# Altium footprint library PCB1.PcbLib: 17 footprints (part 1 of 2)
Each footprint in its own frame and in the unit in brackets; x right, y up, seen from the top. Pads: shape width x height; smd on the part's side, far side on the other; paste and mask are expansions set on the pad; w line width, h text height; cw(c..) or ccw(c..) is an arc to the next point about the centre after c.
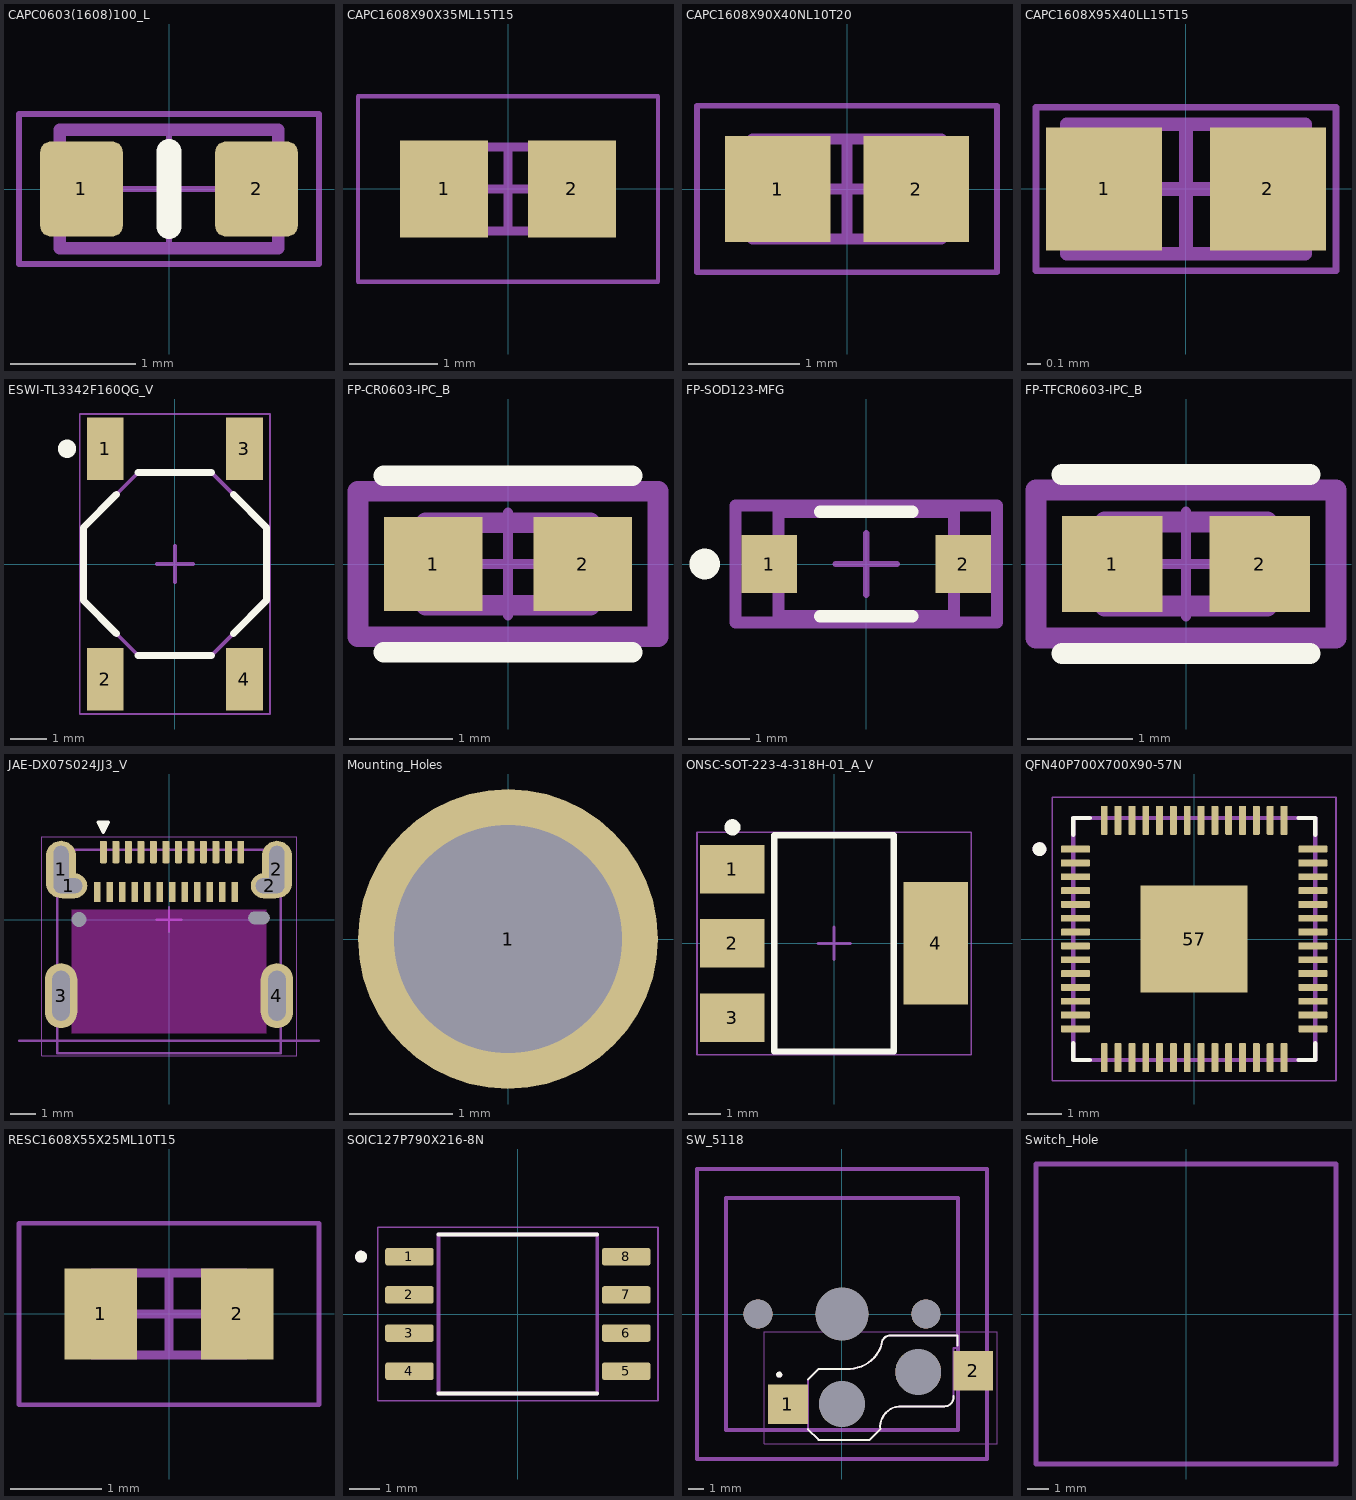
[diagram p0: the footprints below, top view; thin cyan lines are the x and y axes]

## CAPC0603(1608)100_L [mm] "Chip Capacitor, Body 1.6x0.8mm, Height 1.0mm, IPC High Density"
height 1
pads (2):
  rrect25% 0.66x0.76 smd: 1(-0.7,0) 2(0.7,0)
Top Overlay:
  lines w0.2: 0,-0.3 0,0.3
Top Assembly:
  lines w0.1: -0.875,-0.475 -0.875,0.475 0.875,0.475 0.875,-0.475 -0.875,-0.475
Top Courtyard:
  lines w0.05: -0.475,0 0.475,0 ; 0,-0.475 0,0.475 ; -1.2,-0.6 1.2,-0.6 1.2,0.6 -1.2,0.6 -1.2,-0.6
Top Designator:
  text ".Designator" at -1.27,-0.127 h0.6
3D body "CAPC1608X95N EIA 0603.STEP": height 0.95, standoff 0, extent -0.8,-0.4 0.8,0.4

## CAPC1608X90X35ML15T15 [mm] "Chip Capacitor, 2-Leads, Body 1.75x0.95mm, IPC Low Density"
height 0.9
pads (2):
  rect 1x1.1 smd: 1(-0.725,0) 2(0.725,0)
Mechanical 13:
  lines w0.1: -0.875,-0.475 0.875,-0.475 0.875,0.475 -0.875,0.475 -0.875,-0.475
Mechanical 15:
  lines w0.05: -1.7,-1.05 1.7,-1.05 1.7,1.05 -1.7,1.05 -1.7,-1.05
  lines w0.1: -0.475,0 0.475,0 ; 0,-0.475 0,0.475
3D body "CAPC1608X09M.step": height 0.9, standoff 0, extent -0.875,-0.475 0.875,0.475

## CAPC1608X90X40NL10T20 [mm] "Chip Capacitor, 2-Leads, Body 1.70x0.90mm, IPC Medium Density"
height 0.9
pads (2):
  rect 0.95x0.95 smd: 1(-0.625,0) 2(0.625,0)
Mechanical 13:
  lines w0.1: -0.85,-0.45 0.85,-0.45 0.85,0.45 -0.85,0.45 -0.85,-0.45
Mechanical 15:
  lines w0.05: -1.35,-0.75 1.35,-0.75 1.35,0.75 -1.35,0.75 -1.35,-0.75
  lines w0.1: -0.45,0 0.45,0 ; 0,-0.45 0,0.45
3D body "CAPC1608X09N.step": height 0.9, standoff 0, extent -0.85,-0.45 0.85,0.45

## CAPC1608X95X40LL15T15 [mm] "Chip Capacitor, 2-Leads, Body 1.60x0.80mm, IPC High Density"
height 0.95
pads (2):
  rect 0.85x0.9 smd: 1(-0.6,0) 2(0.6,0)
Mechanical 13:
  lines w0.1: -0.875,-0.475 -0.875,0.475 0.875,0.475 0.875,-0.475 -0.875,-0.475
Mechanical 15:
  lines w0.05: -1.1,-0.6 -1.1,0.6 1.1,0.6 1.1,-0.6 -1.1,-0.6
  lines w0.1: -0.475,0 0.475,0 ; 0,-0.475 0,0.475
3D body: height 0.95, standoff 0, extent -0.475,-0.475 0.475,0.475
3D body: height 0.95, standoff 0, extent -0.875,-0.475 -0.475,0.475
3D body: height 0.95, standoff 0, extent 0.475,-0.475 0.875,0.475

## ESWI-TL3342F160QG_V [mm] "SMD, 4-Leads, Body 5x5mm, Pitch 6.3mm"
height 1.5
pads (4):
  rect 1x1.7 smd: 1(-1.9,3.15) 2(-1.9,-3.15) 3(1.9,3.15) 4(1.9,-3.15)
Top Overlay:
  circle w0.25: c-2.95,3.15 r0.125
  lines w0.2: -1.6,-1.9 -2.5,-1 -2.5,1 -1.6,1.9 ; -1,-2.5 1,-2.5 ; -1,2.5 1,2.5 ; 1.6,-1.9 2.5,-1 2.5,1 1.6,1.9
Mechanical 13:
  lines w0.1: -2.5,-1 -1,-2.5 1,-2.5 2.5,-1 2.5,1 1,2.5 -1,2.5 -2.5,1 -2.5,-1
Mechanical 15:
  lines w0.05: -2.6,-4.1 2.6,-4.1 2.6,4.1 -2.6,4.1 -2.6,-4.1
  lines w0.1: -0.5,0 0.5,0 ; 0,-0.5 0,0.5
3D body: height 0.8, standoff 0, extent -2.5,-2.5 2.5,2.5
3D body: height 1.5, standoff 1.2, extent -0.999,-0.999 0.999,0.999
3D body: height 1.2, standoff 0.8, extent -1.899,-1.899 1.899,1.899

## FP-CR0603-IPC_B [mm]
pads (2):
  rect 0.958x0.912 smd paste+0 mask+0: 1(-0.727,0) 2(0.727,0)
Top Overlay:
  lines w0.2: -1.206,-0.856 1.206,-0.856 ; -1.206,0.856 1.206,0.856
Top Assembly:
  lines w0.2: -1.456,-0.706 -1.456,0.706 1.456,0.706 1.456,-0.706 -1.456,-0.706
  text ".Designator" at 0,0.188 h1
Top Courtyard:
  lines w0.2: -1.456,-0.706 -1.456,0.706 1.456,0.706 1.456,-0.706 -1.456,-0.706
Top Component Center:
  lines w0.1: -0.5,0 0.5,0 ; 0,-0.5 0,0.5
Top 3D Body:
  lines w0.2: -0.8,-0.4 -0.8,0.4 0.8,0.4 0.8,-0.4 -0.8,-0.4
3D body "Res_Bourns_CR0603-J-000ELF_eec.STEP": height 0.25, standoff 0, extent -1.456,-0.706 1.456,0.706

## FP-SOD123-MFG [mm]
pads (2):
  rect 0.9x0.95 smd paste+0 mask+0: 1(-1.575,0) 2(1.575,0)
Top Overlay:
  circle w0.25: c-2.625,0 r0.125
  lines w0.2: -0.75,-0.85 0.75,-0.85 ; -0.75,0.85 0.75,0.85
Top Assembly:
  lines w0.2: -2.125,-0.95 -2.125,0.95 2.125,0.95 2.125,-0.95 -2.125,-0.95
  text ".Designator" at 0,-0.001 h1
Top Courtyard:
  lines w0.2: -2.125,-0.95 -2.125,0.95 2.125,0.95 2.125,-0.95 -2.125,-0.95
Top Component Center:
  lines w0.1: -0.5,0 0.5,0 ; 0,-0.5 0,0.5
Top 3D Body:
  lines w0.2: -1.425,-0.85 -1.425,0.85 1.425,0.85 1.425,-0.85 -1.425,-0.85
3D body "Diode_Diodes_Inc_1N4148W-13-F_eec.STEP": height 0.25, standoff 0, extent -2.125,-0.95 2.125,0.95

## FP-TFCR0603-IPC_B [mm]
pads (2):
  rect 0.958x0.912 smd paste+0 mask+0: 1(-0.702,0) 2(0.702,0)
Top Overlay:
  lines w0.2: -1.181,-0.856 1.181,-0.856 ; -1.181,0.856 1.181,0.856
Top Assembly:
  lines w0.2: -1.431,-0.706 -1.431,0.706 1.431,0.706 1.431,-0.706 -1.431,-0.706
  text ".Designator" at 0,0.188 h1
Top Courtyard:
  lines w0.2: -1.431,-0.706 -1.431,0.706 1.431,0.706 1.431,-0.706 -1.431,-0.706
Top Component Center:
  lines w0.1: -0.5,0 0.5,0 ; 0,-0.5 0,0.5
Top 3D Body:
  lines w0.2: -0.775,-0.4 -0.775,0.4 0.775,0.4 0.775,-0.4 -0.775,-0.4
3D body "Res_Venkel_TFCR0603-10W-K-5R76FT_eec.STEP": height 0.25, standoff 0, extent -1.431,-0.706 1.431,0.706

## JAE-DX07S024JJ3_V [mm] "THD, 24-Leads, Body 8.17x8.94mm, Pitch 0.5mm"
height 3.29
pads (32):
  oval 1.2x2.3 hole 0.6 slot 1.9 at 90 deg: 1(-4.32,2) 2(4.32,2)
  oval 1.5x1 hole 0.6 slot 1.1 at 0 deg: 1(-4.02,1.35) 2(4.02,1.35)
  oval 1.3x2.6 hole 0.7 slot 2 at 90 deg: 3(-4.32,-3.05) 4(4.32,-3.05)
  rrect25% 0.27x0.9 smd: A1(-2.625,2.7) A2(-2.125,2.7) A3(-1.625,2.7) A4(-1.125,2.7) A5(-0.625,2.7) A6(-0.125,2.7) A7(0.375,2.7) A8(0.875,2.7) A9(1.375,2.7) A10(1.875,2.7) A11(2.375,2.7) A12(2.875,2.7)
  rrect25% 0.27x0.8 smd: B1(2.625,1.1) B2(2.125,1.1) B3(1.625,1.1) B4(1.125,1.1) B5(0.625,1.1) B6(0.125,1.1) B7(-0.375,1.1) B8(-0.875,1.1) B9(-1.375,1.1) B10(-1.875,1.1) B11(-2.375,1.1) B12(-2.875,1.1)
  round 0 hole 0.6 unplated: H1(-3.6,0)
  round 0 hole 0.5 slot 0.85 at 0 deg unplated: H2(3.6,0.065)
Top Layer keep-out:
  region: -3.9,-4.55 3.9,-4.55 3.9,0.4 -3.9,0.4
Top Overlay:
  region: -2.825,3.89 -2.425,3.89 -2.625,3.49
  lines w0.15: -2.825,3.89 -2.425,3.89 -2.625,3.49 -2.825,3.89
Top Assembly:
  lines w0.1: -6,-4.85 6,-4.85 ; -4.47,-5.35 4.47,-5.35 4.47,2.8 -4.47,2.8 -4.47,-5.35
Top Courtyard:
  lines w0.05: -5.1,-5.45 5.1,-5.45 5.1,3.3 -5.1,3.3 -5.1,-5.45
  lines w0.1: -0.5,0 0.5,0 ; 0,-0.5 0,0.5
Top 3D Body:
  text "Board Edge" at -1.1,-5.3 h0.5
Top Designator:
  text ".Designator" at -1.905,1.778 h0.6
3D body "CX90B1-24P_4800497000_3D.stp": height 3.16, standoff -0.6, extent -4.47,-5.35 4.47,2.8

## Mounting_Holes [mm]
pads (1):
  round 2.9 hole 2.2: 1(0,0)

## ONSC-SOT-223-4-318H-01_A_V [mm] "SOT223, 4-Leads, Body 6.7x3.7mm, Pitch 2.3mm"
height 1.8
pads (4):
  rect 2x1.5 smd: 1(-3.15,2.3) 2(-3.15,0) 3(-3.15,-2.3)
  rect 2x3.8 smd: 4(3.15,0)
Top Overlay:
  circle w0.25: c-3.15,3.6 r0.125
  lines w0.2: -1.85,-3.35 1.85,-3.35 1.85,3.35 -1.85,3.35 -1.85,-3.35
Mechanical 13:
  lines w0.1: -1.85,-3.35 1.85,-3.35 1.85,3.35 -1.85,3.35 -1.85,-3.35
Mechanical 15:
  lines w0.05: -4.25,-3.45 4.25,-3.45 4.25,3.45 -4.25,3.45 -4.25,-3.45
  lines w0.1: -0.5,0 0.5,0 ; 0,-0.5 0,0.5
3D body "SOT230P700X180-4L.step": height 1.8, standoff 0, extent -3.65,-3.35 3.65,3.35

## QFN40P700X700X90-57N [mm]
height 0.9
pads (57):
  rrect25% 0.84x0.2 smd mask+0.05: 2(-3.435,2.2) 3(-3.435,1.8) 4(-3.435,1.4) 5(-3.435,1) 6(-3.435,0.6) 7(-3.435,0.2) 8(-3.435,-0.2) 9(-3.435,-0.6) 11(-3.435,-1.4) 12(-3.435,-1.8) 13(-3.435,-2.2) 14(-3.435,-2.6) 29(3.435,-2.6) 30(3.435,-2.2) 31(3.435,-1.8) 32(3.435,-1.4) 34(3.435,-0.6) 35(3.435,-0.2) 36(3.435,0.2) 37(3.435,0.6) 38(3.435,1) 39(3.435,1.4) 40(3.435,1.8) 41(3.435,2.2) IOVDD(-3.435,-1) IOVDD(-3.435,2.6) IOVDD(3.435,-1) IOVDD(3.435,2.6)
  rrect25% 0.2x0.84 smd mask+0.05: 15(-2.6,-3.435) 16(-2.2,-3.435) 17(-1.8,-3.435) 18(-1.4,-3.435) 19(-1,-3.435) 20(-0.6,-3.435) 21(-0.2,-3.435) 24(1,-3.435) 25(1.4,-3.435) 26(1.8,-3.435) 27(2.2,-3.435) 28(2.6,-3.435) 43(2.6,3.435) 44(2.2,3.435) 45(1.8,3.435) 46(1.4,3.435) 47(1,3.435) 48(0.6,3.435) 51(-0.6,3.435) 52(-1,3.435) 53(-1.4,3.435) 54(-1.8,3.435) 55(-2.2,3.435) 56(-2.6,3.435) DVDD(-0.2,3.435) DVDD(0.6,-3.435) IOVDD(0.2,-3.435) IOVDD(0.2,3.435)
  rect 3.1x3.1 smd paste-0.57 mask+0.05: 57(0,0)
Top Overlay:
  circle w0.2: c-4.475,2.6 r0.1
  lines w0.127: -3.5,-3.02 -3.5,-3.5 -3.02,-3.5 ; -3.5,3.02 -3.5,3.5 -3.02,3.5 ; 3.02,-3.5 3.5,-3.5 3.5,-3.02 ; 3.02,3.5 3.5,3.5 3.5,3.02
Mechanical 13:
  circle w0.2: c-4.475,2.6 r0.1
  lines w0.127: -3.5,-3.5 -3.5,3.5 3.5,3.5 3.5,-3.5 -3.5,-3.5
Mechanical 15:
  lines w0.05: -4.105,-4.105 -4.105,4.105 4.105,4.105 4.105,-4.105 -4.105,-4.105
3D body "step_temp.STEP": height 0.9, standoff 0, extent -3.5,-3.5 3.5,3.5

## RESC1608X55X25ML10T15 [mm] "Chip Resistor, 2-Leads, Body 1.70x0.90mm, IPC Low Density"
height 0.55
pads (2):
  rect 0.8x1 smd: 1(-0.75,0) 2(0.75,0)
Mechanical 13:
  lines w0.1: -0.85,-0.45 -0.85,0.45 0.85,0.45 0.85,-0.45 -0.85,-0.45
Mechanical 15:
  lines w0.05: -1.65,-1 -1.65,1 1.65,1 1.65,-1 -1.65,-1
  lines w0.1: -0.45,0 0.45,0 ; 0,-0.45 0,0.45
3D body "RESC1608X06N.step": height 0.55, standoff 0, extent -0.85,-0.45 0.85,0.45

## SOIC127P790X216-8N [mm]
height 2.16
pads (8):
  rrect25% 1.61x0.58 smd: 1(-3.605,1.905) 2(-3.605,0.635) 3(-3.605,-0.635) 4(-3.605,-1.905) 5(3.605,-1.905) 6(3.605,-0.635) 7(3.605,0.635) 8(3.605,1.905)
Top Overlay:
  circle w0.2: c-5.215,1.905 r0.1
  lines w0.127: -2.64,-2.64 2.64,-2.64 ; -2.64,2.64 2.64,2.64
Mechanical 13:
  circle w0.2: c-5.215,1.905 r0.1
  lines w0.127: -2.64,-2.64 2.64,-2.64 2.64,2.64 -2.64,2.64 -2.64,-2.64
Mechanical 15:
  lines w0.05: -4.66,-2.89 4.66,-2.89 4.66,2.89 -4.66,2.89 -4.66,-2.89
3D body "step_temp.STEP": height 2.16, standoff 0, extent -3.95,-2.64 3.95,2.64

## SW_5118 [mm]
height 1.85
pads (7):
  rect 2.6x2.6 smd: 1(-3.535,-5.926) 2(8.615,-3.726)
  round 1.902 hole 1.902 unplated: ""(-5.5,0) ""(5.5,0)
  round 3 hole 3 unplated: ""(0,-5.9) ""(5,-3.8)
  round 3.452 hole 3.452 unplated: ""(0,0)
Top Overlay:
  circle w0.2: c-4.11,-3.976 r0.1
  lines w0.127: -2.235,-7.551 -1.535,-8.251 1.815,-8.251 2.515,-7.551 ; -2.235,-4.301 -1.535,-3.601 0.515,-3.601 ; 0.531,-3.6 ccw(c0.41,-1.304) 2.61,-1.976 ; 2.515,-7.554 cw(c3.875,-7.411) 3.732,-6.051 ; 2.605,-1.986 cw(c3.18,-1.976) 3.17,-1.401 ; 3.165,-1.401 7.565,-1.401 7.565,-2.076 ; 3.735,-6.051 6.735,-6.051 ccw(c6.735,-5.471) 7.315,-5.471 ; 7.315,-5.476 7.315,-5.376
Mechanical 1:
  lines w0.254: -7.6,-7.6 7.6,-7.6 7.6,7.6 -7.6,7.6 -7.6,-7.6
Mechanical 13:
  circle w0.2: c-4.11,-3.976 r0.1
  lines w0.127: 0.515,-3.601 -1.535,-3.601 -2.235,-4.301 -2.235,-7.551 -1.535,-8.251 1.815,-8.251 2.515,-7.551 ; 0.531,-3.6 ccw(c0.41,-1.304) 2.61,-1.976 ; 2.515,-7.554 cw(c3.875,-7.411) 3.732,-6.051 ; 2.605,-1.986 cw(c3.18,-1.976) 3.17,-1.401 ; 3.165,-1.401 7.565,-1.401 7.565,-2.226 7.315,-2.226 7.315,-5.471 cw(c6.735,-5.471) 6.735,-6.051 3.735,-6.051
  lines w0.254: -9.5,-9.5 9.5,-9.5 9.5,9.5 -9.5,9.5 -9.5,-9.5
Mechanical 15:
  lines w0.05: -5.085,-8.501 -5.085,-1.151 10.165,-1.151 10.165,-8.501 -5.085,-8.501
3D body "step_temp.STEP": height 1.85, standoff -1.2, extent -4.035,-8.251 9.115,-1.401

## Switch_Hole [mm]
Mechanical 1:
  lines w0.254: -6.985,-6.985 6.985,-6.985 6.985,6.985 -6.985,6.985 -6.985,-6.985